# EAGLE library part MIC4680 (library Micrel)
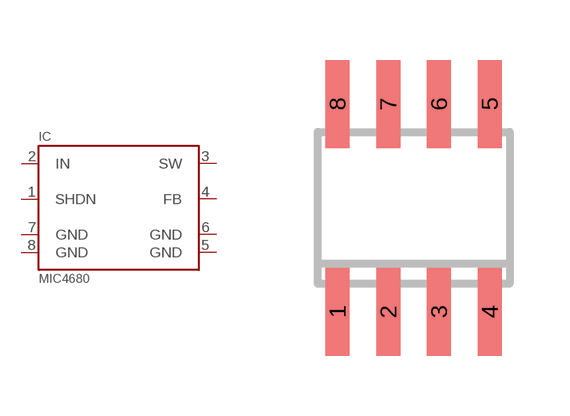
[diagram p0: symbol with the pads of SO08; footprint SO08]

Designator prefix IC

## MIC4680  [SO08]
1  SHDN  in
2  IN  pwr
3  SW  sup
4  FB  pas
5  GND  pwr
6  GND  pwr
7  GND  pwr
8  GND  pwr

## Footprint SO08 (pad centres in mm)
smd 0.6 x 2.2: 1 -1.905,-2.6; 2 -0.635,-2.6; 3 0.635,-2.6; 4 1.905,-2.6; 5 1.905,2.6; 6 0.635,2.6; 7 -0.635,2.6; 8 -1.905,2.6